# EAGLE library part ADV7125 (library ADV7125)
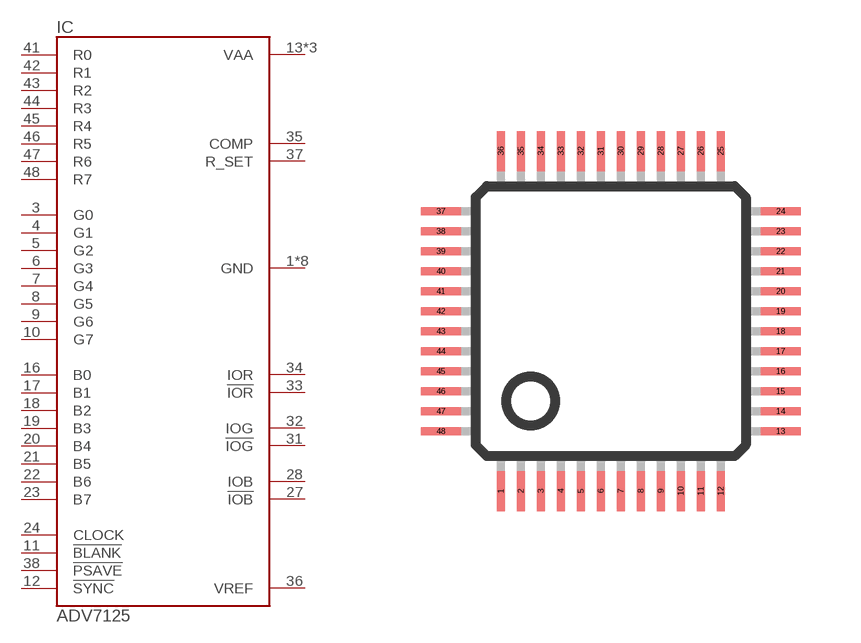
[diagram p0: symbol with the pads of LQFP48; footprint LQFP48]

Designator prefix IC

## ADV7125  [LQFP48]
1  GND
2  GND
3  G0
4  G1
5  G2
6  G3
7  G4
8  G5
9  G6
10  G7
11  !BLANK!
12  !SYNC!
13  VAA
14  GND
15  GND
16  B0
17  B1
18  B2
19  B3
20  B4
21  B5
22  B6
23  B7
24  CLOCK
25  GND
26  GND
27  !IOB!
28  IOB
29  VAA
30  VAA
31  !IOG!
32  IOG
33  !IOR!
34  IOR
35  COMP
36  VREF
37  R_SET
38  !PSAVE!
39  GND
40  GND
41  R0
42  R1
43  R2
44  R3
45  R4
46  R5
47  R6
48  R7

## Footprint LQFP48 (pad centres in mm)
48-pin plastic LQFP (FPT-48P-M26) www.fma.fujitsu.com/pdf/e713717.pdf
smd 0.2 x 1: 1 -2.75,-4.25; 2 -2.25,-4.25; 3 -1.75,-4.25; 4 -1.25,-4.25; 5 -0.75,-4.25; 6 -0.25,-4.25; 7 0.25,-4.25; 8 0.75,-4.25; 9 1.25,-4.25; 10 1.75,-4.25; 11 2.25,-4.25; 12 2.75,-4.25; 25 2.75,4.25; 26 2.25,4.25; 27 1.75,4.25; 28 1.25,4.25; 29 0.75,4.25; 30 0.25,4.25; 31 -0.25,4.25; 32 -0.75,4.25; 33 -1.25,4.25; 34 -1.75,4.25; 35 -2.25,4.25; 36 -2.75,4.25
smd 1 x 0.2: 13 4.25,-2.75; 14 4.25,-2.25; 15 4.25,-1.75; 16 4.25,-1.25; 17 4.25,-0.75; 18 4.25,-0.25; 19 4.25,0.25; 20 4.25,0.75; 21 4.25,1.25; 22 4.25,1.75; 23 4.25,2.25; 24 4.25,2.75; 37 -4.25,2.75; 38 -4.25,2.25; 39 -4.25,1.75; 40 -4.25,1.25; 41 -4.25,0.75; 42 -4.25,0.25; 43 -4.25,-0.25; 44 -4.25,-0.75; 45 -4.25,-1.25; 46 -4.25,-1.75; 47 -4.25,-2.25; 48 -4.25,-2.75